# EAGLE library part MAX652 (library 000001)
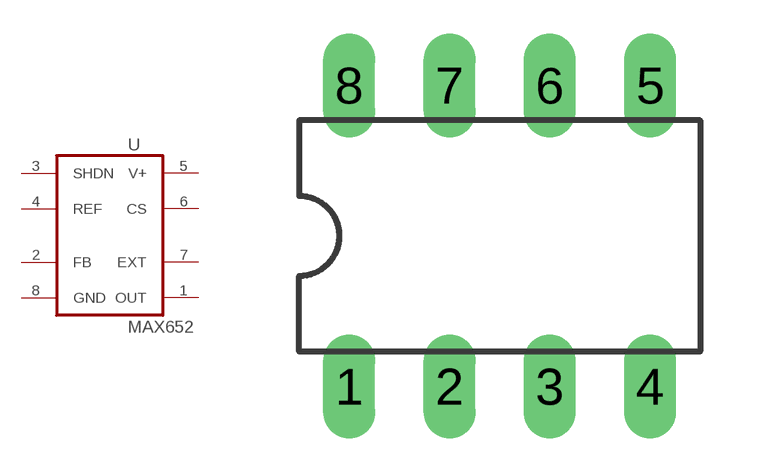
[diagram p51: symbol with the pads of DIL08; footprint DIL08]

Designator prefix -

## MAX652  [DIL08]
1  OUT  pwr
2  FB  in
3  SHDN  in
4  REF  in
5  V+  in
6  CS  pas
7  EXT  pas
8  GND  pwr

## Footprint DIL08 (pad centres in mm)
Dual In Line Package
drill 0.813 long: 1 -3.81,-3.81; 2 -1.27,-3.81; 3 1.27,-3.81; 4 3.81,-3.81; 5 3.81,3.81; 6 1.27,3.81; 7 -1.27,3.81; 8 -3.81,3.81